# Altium schematic symbol library WCAP-ASLI.SchLib: 143 symbols (part 2 of 3)
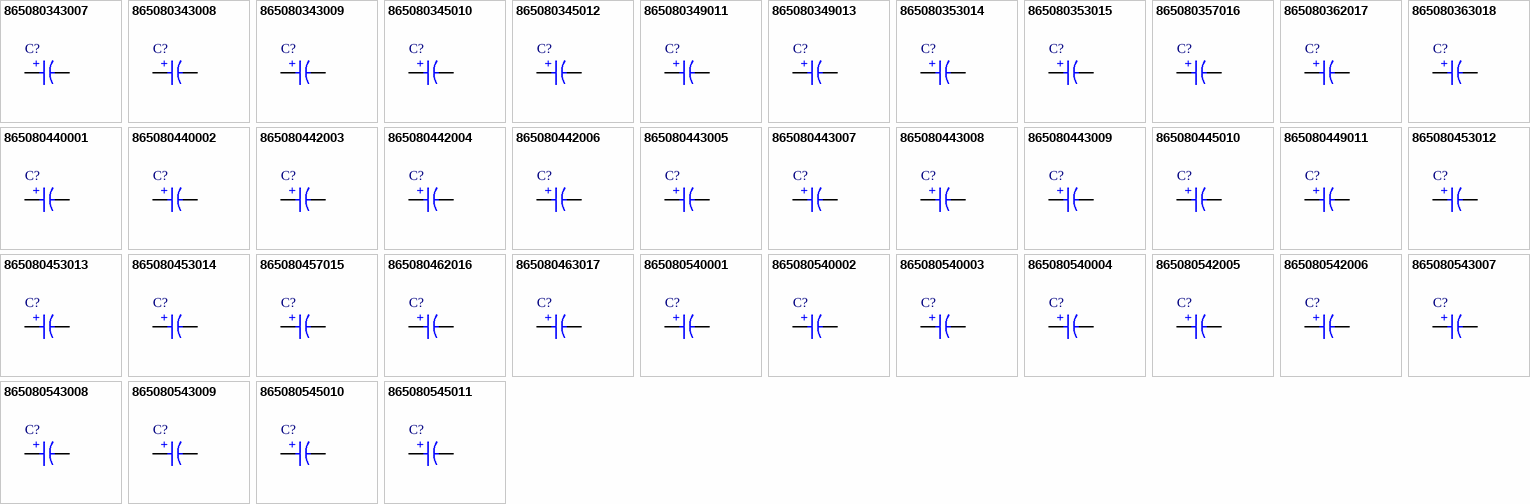
[diagram p4: symbols 865080343007 to 865080545011]

## 865080442004
designator C?, comment 22μF  (value not drawn)
WCAP-ASLI Aluminum Electrolytic Capacitor, V-Chip, SMT, 5mm x 5.5mm, 22μF, 25V; Manufacturer Part Number: 865080442004; Manufacturer: Wurth Elektronik; Dissipation Factor: 14%; Endurance: 2000h; Impedance: 1200mΩ; Leakage Current: 5.5μA; Ripple Current: 145mA; Category: Aluminum Electrolytic Capacitors; Match Code: WCAP-ASLI; ComponentLink1Description: Website Link; ComponentLink1URL: https://www.we-online.com/redexpert/article/865080442004?ad; ComponentLink2Description: Datasheet Link; ComponentLink2URL: https://www.we-online.com/redexpert/spec/865080442004?ad; Mount: Surface Mount; Min Operating Temperature: -55°C; Max Operating Temperature: 105°C; Packaging: Tape and Reel; Height: 5.5mm; Diameter: 5mm; Capacitance: 22μF; Rated Voltage (DC): 25V
footprint WCAP-ASLI_D5H5.5
simulation model 865080442004_22uF
pins: 1 P, 2 N
text: +

## 865080442006
designator C?, comment 33μF  (value not drawn)
WCAP-ASLI Aluminum Electrolytic Capacitor, V-Chip, SMT, 5mm x 5.5mm, 33μF, 25V; Manufacturer Part Number: 865080442006; Manufacturer: Wurth Elektronik; Dissipation Factor: 14%; Endurance: 2000h; Impedance: 1050mΩ; Leakage Current: 8.25μA; Ripple Current: 160mA; Category: Aluminum Electrolytic Capacitors; Match Code: WCAP-ASLI; ComponentLink1Description: Website Link; ComponentLink1URL: https://www.we-online.com/redexpert/article/865080442006?ad; ComponentLink2Description: Datasheet Link; ComponentLink2URL: https://www.we-online.com/redexpert/spec/865080442006?ad; Mount: Surface Mount; Min Operating Temperature: -55°C; Max Operating Temperature: 105°C; Packaging: Tape and Reel; Height: 5.5mm; Diameter: 5mm; Capacitance: 33μF; Rated Voltage (DC): 25V
footprint WCAP-ASLI_D5H5.5
simulation model 865080442006_33uF
pins: 1 P, 2 N
text: +

## 865080443005
designator C?, comment 27μF  (value not drawn)
WCAP-ASLI Aluminum Electrolytic Capacitor, V-Chip, SMT, 6.3mm x 5.5mm, 27μF, 25V; Manufacturer Part Number: 865080443005; Manufacturer: Wurth Elektronik; Dissipation Factor: 14%; Endurance: 2000h; Impedance: 620mΩ; Leakage Current: 6.75μA; Ripple Current: 200mA; Category: Aluminum Electrolytic Capacitors; Match Code: WCAP-ASLI; ComponentLink1Description: Website Link; ComponentLink1URL: https://www.we-online.com/redexpert/article/865080443005?ad; ComponentLink2Description: Datasheet Link; ComponentLink2URL: https://www.we-online.com/redexpert/spec/865080443005?ad; Mount: Surface Mount; Min Operating Temperature: -55°C; Max Operating Temperature: 105°C; Packaging: Tape and Reel; Height: 5.5mm; Diameter: 6.3mm; Capacitance: 27μF; Rated Voltage (DC): 25V
footprint WCAP-ASLI_D6.3H5.5
simulation model 865080443005_27uF
pins: 1 P, 2 N
text: +

## 865080443007
designator C?, comment 47μF  (value not drawn)
WCAP-ASLI Aluminum Electrolytic Capacitor, V-Chip, SMT, 6.3mm x 5.5mm, 47μF, 25V; Manufacturer Part Number: 865080443007; Manufacturer: Wurth Elektronik; Dissipation Factor: 14%; Endurance: 2000h; Impedance: 560mΩ; Leakage Current: 11.75μA; Ripple Current: 220mA; Category: Aluminum Electrolytic Capacitors; Match Code: WCAP-ASLI; ComponentLink1Description: Website Link; ComponentLink1URL: https://www.we-online.com/redexpert/article/865080443007?ad; ComponentLink2Description: Datasheet Link; ComponentLink2URL: https://www.we-online.com/redexpert/spec/865080443007?ad; Mount: Surface Mount; Min Operating Temperature: -55°C; Max Operating Temperature: 105°C; Packaging: Tape and Reel; Height: 5.5mm; Diameter: 6.3mm; Capacitance: 47μF; Rated Voltage (DC): 25V
footprint WCAP-ASLI_D6.3H5.5
simulation model 865080443007_47uF
pins: 1 P, 2 N
text: +

## 865080443008
designator C?, comment 56μF  (value not drawn)
WCAP-ASLI Aluminum Electrolytic Capacitor, V-Chip, SMT, 6.3mm x 5.5mm, 56μF, 25V; Manufacturer Part Number: 865080443008; Manufacturer: Wurth Elektronik; Dissipation Factor: 14%; Endurance: 2000h; Impedance: 540mΩ; Leakage Current: 14μA; Ripple Current: 230mA; Category: Aluminum Electrolytic Capacitors; Match Code: WCAP-ASLI; ComponentLink1Description: Website Link; ComponentLink1URL: https://www.we-online.com/redexpert/article/865080443008?ad; ComponentLink2Description: Datasheet Link; ComponentLink2URL: https://www.we-online.com/redexpert/spec/865080443008?ad; Mount: Surface Mount; Min Operating Temperature: -55°C; Max Operating Temperature: 105°C; Packaging: Tape and Reel; Height: 5.5mm; Diameter: 6.3mm; Capacitance: 56μF; Rated Voltage (DC): 25V
footprint WCAP-ASLI_D6.3H5.5
simulation model 865080443008_56uF
pins: 1 P, 2 N
text: +

## 865080443009
designator C?, comment 68μF  (value not drawn)
WCAP-ASLI Aluminum Electrolytic Capacitor, V-Chip, SMT, 6.3mm x 5.5mm, 68μF, 25V; Manufacturer Part Number: 865080443009; Manufacturer: Wurth Elektronik; Dissipation Factor: 14%; Endurance: 2000h; Impedance: 480mΩ; Leakage Current: 17μA; Ripple Current: 240mA; Category: Aluminum Electrolytic Capacitors; Match Code: WCAP-ASLI; ComponentLink1Description: Website Link; ComponentLink1URL: https://www.we-online.com/redexpert/article/865080443009?ad; ComponentLink2Description: Datasheet Link; ComponentLink2URL: https://www.we-online.com/redexpert/spec/865080443009?ad; Mount: Surface Mount; Min Operating Temperature: -55°C; Max Operating Temperature: 105°C; Packaging: Tape and Reel; Height: 5.5mm; Diameter: 6.3mm; Capacitance: 68μF; Rated Voltage (DC): 25V
footprint WCAP-ASLI_D6.3H5.5
simulation model 865080443009_68uF
pins: 1 P, 2 N
text: +

## 865080445010
designator C?, comment 100μF  (value not drawn)
WCAP-ASLI Aluminum Electrolytic Capacitor, V-Chip, SMT, 6.3mm x 7.7mm, 100μF, 25V; Manufacturer Part Number: 865080445010; Manufacturer: Wurth Elektronik; Dissipation Factor: 14%; Endurance: 2000h; Impedance: 380mΩ; Leakage Current: 25μA; Ripple Current: 290mA; Category: Aluminum Electrolytic Capacitors; Match Code: WCAP-ASLI; ComponentLink1Description: Website Link; ComponentLink1URL: https://www.we-online.com/redexpert/article/865080445010?ad; ComponentLink2Description: Datasheet Link; ComponentLink2URL: https://www.we-online.com/redexpert/spec/865080445010?ad; Mount: Surface Mount; Min Operating Temperature: -55°C; Max Operating Temperature: 105°C; Packaging: Tape and Reel; Height: 7.7mm; Diameter: 6.3mm; Capacitance: 100μF; Rated Voltage (DC): 25V
footprint WCAP-ASLI_D6.3H7.7
simulation model 865080445010_100uF
pins: 1 P, 2 N
text: +

## 865080449011
designator C?, comment 100μF  (value not drawn)
WCAP-ASLI Aluminum Electrolytic Capacitor, V-Chip, SMT, 8mm x 6.5mm, 100μF, 25V; Manufacturer Part Number: 865080449011; Manufacturer: Wurth Elektronik; Dissipation Factor: 14%; Endurance: 2000h; Impedance: 360mΩ; Leakage Current: 25μA; Ripple Current: 300mA; Category: Aluminum Electrolytic Capacitors; Match Code: WCAP-ASLI; ComponentLink1Description: Website Link; ComponentLink1URL: https://www.we-online.com/redexpert/article/865080449011?ad; ComponentLink2Description: Datasheet Link; ComponentLink2URL: https://www.we-online.com/redexpert/spec/865080449011?ad; Mount: Surface Mount; Min Operating Temperature: -55°C; Max Operating Temperature: 105°C; Packaging: Tape and Reel; Height: 6.5mm; Diameter: 8mm; Capacitance: 100μF; Rated Voltage (DC): 25V
footprint WCAP-ASLI_D8H6.5
simulation model 865080449011_100uF
pins: 1 P, 2 N
text: +

## 865080453012
designator C?, comment 150μF  (value not drawn)
WCAP-ASLI Aluminum Electrolytic Capacitor, V-Chip, SMT, 8mm x 10.5mm, 150μF, 25V; Manufacturer Part Number: 865080453012; Manufacturer: Wurth Elektronik; Dissipation Factor: 14%; Endurance: 2000h; Impedance: 250mΩ; Leakage Current: 37.5μA; Ripple Current: 480mA; Category: Aluminum Electrolytic Capacitors; Match Code: WCAP-ASLI; ComponentLink1Description: Website Link; ComponentLink1URL: https://www.we-online.com/redexpert/article/865080453012?ad; ComponentLink2Description: Datasheet Link; ComponentLink2URL: https://www.we-online.com/redexpert/spec/865080453012?ad; Mount: Surface Mount; Min Operating Temperature: -55°C; Max Operating Temperature: 105°C; Packaging: Tape and Reel; Height: 10.5mm; Diameter: 8mm; Capacitance: 150μF; Rated Voltage (DC): 25V
footprint WCAP-ASLI_D8H10.5
simulation model 865080453012_150uF
pins: 1 P, 2 N
text: +

## 865080453013
designator C?, comment 220μF  (value not drawn)
WCAP-ASLI Aluminum Electrolytic Capacitor, V-Chip, SMT, 8mm x 10.5mm, 220μF, 25V; Manufacturer Part Number: 865080453013; Manufacturer: Wurth Elektronik; Dissipation Factor: 14%; Endurance: 2000h; Impedance: 220mΩ; Leakage Current: 55μA; Ripple Current: 530mA; Category: Aluminum Electrolytic Capacitors; Match Code: WCAP-ASLI; ComponentLink1Description: Website Link; ComponentLink1URL: https://www.we-online.com/redexpert/article/865080453013?ad; ComponentLink2Description: Datasheet Link; ComponentLink2URL: https://www.we-online.com/redexpert/spec/865080453013?ad; Mount: Surface Mount; Min Operating Temperature: -55°C; Max Operating Temperature: 105°C; Packaging: Tape and Reel; Height: 10.5mm; Diameter: 8mm; Capacitance: 220μF; Rated Voltage (DC): 25V
footprint WCAP-ASLI_D8H10.5
simulation model 865080453013_220uF
pins: 1 P, 2 N
text: +

## 865080453014
designator C?, comment 330μF  (value not drawn)
WCAP-ASLI Aluminum Electrolytic Capacitor, V-Chip, SMT, 8mm x 10.5mm, 330μF, 25V; Manufacturer Part Number: 865080453014; Manufacturer: Wurth Elektronik; Dissipation Factor: 14%; Endurance: 2000h; Impedance: 200mΩ; Leakage Current: 82.5μA; Ripple Current: 570mA; Category: Aluminum Electrolytic Capacitors; Match Code: WCAP-ASLI; ComponentLink1Description: Website Link; ComponentLink1URL: https://www.we-online.com/redexpert/article/865080453014?ad; ComponentLink2Description: Datasheet Link; ComponentLink2URL: https://www.we-online.com/redexpert/spec/865080453014?ad; Mount: Surface Mount; Min Operating Temperature: -55°C; Max Operating Temperature: 105°C; Packaging: Tape and Reel; Height: 10.5mm; Diameter: 8mm; Capacitance: 330μF; Rated Voltage (DC): 25V
footprint WCAP-ASLI_D8H10.5
simulation model 865080453014_330uF
pins: 1 P, 2 N
text: +

## 865080457015
designator C?, comment 470μF  (value not drawn)
WCAP-ASLI Aluminum Electrolytic Capacitor, V-Chip, SMT, 10mm x 10.5mm, 470μF, 25V; Manufacturer Part Number: 865080457015; Manufacturer: Wurth Elektronik; Dissipation Factor: 14%; Endurance: 2000h; Impedance: 150mΩ; Leakage Current: 117.5μA; Ripple Current: 650mA; Category: Aluminum Electrolytic Capacitors; Match Code: WCAP-ASLI; ComponentLink1Description: Website Link; ComponentLink1URL: https://www.we-online.com/redexpert/article/865080457015?ad; ComponentLink2Description: Datasheet Link; ComponentLink2URL: https://www.we-online.com/redexpert/spec/865080457015?ad; Mount: Surface Mount; Min Operating Temperature: -55°C; Max Operating Temperature: 105°C; Packaging: Tape and Reel; Height: 10.5mm; Diameter: 10mm; Capacitance: 470μF; Rated Voltage (DC): 25V
footprint WCAP-ASLI_D10H10.5
simulation model 865080457015_470uF
pins: 1 P, 2 N
text: +

## 865080462016
designator C?, comment 1000μF  (value not drawn)
WCAP-ASLI Aluminum Electrolytic Capacitor, V-Chip, SMT, 12.5mm x 14mm, 1000μF, 25V; Manufacturer Part Number: 865080462016; Manufacturer: Wurth Elektronik; Dissipation Factor: 14%; Endurance: 5000h; Impedance: 80mΩ; Leakage Current: 250μA; Ripple Current: 1100mA; Category: Aluminum Electrolytic Capacitors; Match Code: WCAP-ASLI; ComponentLink1Description: Website Link; ComponentLink1URL: https://www.we-online.com/redexpert/article/865080462016?ad; ComponentLink2Description: Datasheet Link; ComponentLink2URL: https://www.we-online.com/redexpert/spec/865080462016?ad; Mount: Surface Mount; Min Operating Temperature: -55°C; Max Operating Temperature: 105°C; Packaging: Tape and Reel; Height: 14mm; Diameter: 12.5mm; Capacitance: 1000μF; Rated Voltage (DC): 25V
footprint WCAP-ASLI_D12.5H14
simulation model 865080462016_1mF
pins: 1 P, 2 N
text: +

## 865080463017
designator C?, comment 2200μF  (value not drawn)
WCAP-ASLI Aluminum Electrolytic Capacitor, V-Chip, SMT, 16mm x 17mm, 2200μF, 25V; Manufacturer Part Number: 865080463017; Manufacturer: Wurth Elektronik; Dissipation Factor: 16%; Endurance: 5000h; Impedance: 52mΩ; Leakage Current: 550μA; Ripple Current: 1250mA; Category: Aluminum Electrolytic Capacitors; Match Code: WCAP-ASLI; ComponentLink1Description: Website Link; ComponentLink1URL: https://www.we-online.com/redexpert/article/865080463017?ad; ComponentLink2Description: Datasheet Link; ComponentLink2URL: https://www.we-online.com/redexpert/spec/865080463017?ad; Mount: Surface Mount; Min Operating Temperature: -55°C; Max Operating Temperature: 105°C; Packaging: Tape and Reel; Height: 17mm; Diameter: 16mm; Capacitance: 2200μF; Rated Voltage (DC): 25V
footprint WCAP-ASLI_D16H17
simulation model 865080463017_2.2mF
pins: 1 P, 2 N
text: +

## 865080540001
designator C?, comment 3.3μF  (value not drawn)
WCAP-ASLI Aluminum Electrolytic Capacitor, V-Chip, SMT, 4mm x 5.5mm, 3.3μF, 35V; Manufacturer Part Number: 865080540001; Manufacturer: Wurth Elektronik; Dissipation Factor: 14%; Endurance: 2000h; Impedance: 2800mΩ; Leakage Current: 3μA; Ripple Current: 80mA; Category: Aluminum Electrolytic Capacitors; Match Code: WCAP-ASLI; ComponentLink1Description: Website Link; ComponentLink1URL: https://www.we-online.com/redexpert/article/865080540001?ad; ComponentLink2Description: Datasheet Link; ComponentLink2URL: https://www.we-online.com/redexpert/spec/865080540001?ad; Mount: Surface Mount; Min Operating Temperature: -55°C; Max Operating Temperature: 105°C; Packaging: Tape and Reel; Height: 5.5mm; Diameter: 4mm; Capacitance: 3.3μF; Rated Voltage (DC): 35V
footprint WCAP-ASLI_D4H5.5
simulation model 865080540001_3.3uF
pins: 1 P, 2 N
text: +

## 865080540002
designator C?, comment 4.7μF  (value not drawn)
WCAP-ASLI Aluminum Electrolytic Capacitor, V-Chip, SMT, 4mm x 5.5mm, 4.7μF, 35V; Manufacturer Part Number: 865080540002; Manufacturer: Wurth Elektronik; Dissipation Factor: 14%; Endurance: 2000h; Impedance: 2500mΩ; Leakage Current: 3μA; Ripple Current: 85mA; Category: Aluminum Electrolytic Capacitors; Match Code: WCAP-ASLI; ComponentLink1Description: Website Link; ComponentLink1URL: https://www.we-online.com/redexpert/article/865080540002?ad; ComponentLink2Description: Datasheet Link; ComponentLink2URL: https://www.we-online.com/redexpert/spec/865080540002?ad; Mount: Surface Mount; Min Operating Temperature: -55°C; Max Operating Temperature: 105°C; Packaging: Tape and Reel; Height: 5.5mm; Diameter: 4mm; Capacitance: 4.7μF; Rated Voltage (DC): 35V
footprint WCAP-ASLI_D4H5.5
simulation model 865080540002_4.7uF
pins: 1 P, 2 N
text: +

## 865080540003
designator C?, comment 6.8μF  (value not drawn)
WCAP-ASLI Aluminum Electrolytic Capacitor, V-Chip, SMT, 4mm x 5.5mm, 6.8μF, 35V; Manufacturer Part Number: 865080540003; Manufacturer: Wurth Elektronik; Dissipation Factor: 14%; Endurance: 2000h; Impedance: 2200mΩ; Leakage Current: 3μA; Ripple Current: 88mA; Category: Aluminum Electrolytic Capacitors; Match Code: WCAP-ASLI; ComponentLink1Description: Website Link; ComponentLink1URL: https://www.we-online.com/redexpert/article/865080540003?ad; ComponentLink2Description: Datasheet Link; ComponentLink2URL: https://www.we-online.com/redexpert/spec/865080540003?ad; Mount: Surface Mount; Min Operating Temperature: -55°C; Max Operating Temperature: 105°C; Packaging: Tape and Reel; Height: 5.5mm; Diameter: 4mm; Capacitance: 6.8μF; Rated Voltage (DC): 35V
footprint WCAP-ASLI_D4H5.5
simulation model 865080540003_6.8uF
pins: 1 P, 2 N
text: +

## 865080540004
designator C?, comment 10μF  (value not drawn)
WCAP-ASLI Aluminum Electrolytic Capacitor, V-Chip, SMT, 4mm x 5.5mm, 10μF, 35V; Manufacturer Part Number: 865080540004; Manufacturer: Wurth Elektronik; Dissipation Factor: 14%; Endurance: 2000h; Impedance: 2000mΩ; Leakage Current: 3.5μA; Ripple Current: 90mA; Category: Aluminum Electrolytic Capacitors; Match Code: WCAP-ASLI; ComponentLink1Description: Website Link; ComponentLink1URL: https://www.we-online.com/redexpert/article/865080540004?ad; ComponentLink2Description: Datasheet Link; ComponentLink2URL: https://www.we-online.com/redexpert/spec/865080540004?ad; Mount: Surface Mount; Min Operating Temperature: -55°C; Max Operating Temperature: 105°C; Packaging: Tape and Reel; Height: 5.5mm; Diameter: 4mm; Capacitance: 10μF; Rated Voltage (DC): 35V
footprint WCAP-ASLI_D4H5.5
simulation model 865080540004_10uF
pins: 1 P, 2 N
text: +

## 865080542005
designator C?, comment 15μF  (value not drawn)
WCAP-ASLI Aluminum Electrolytic Capacitor, V-Chip, SMT, 5mm x 5.5mm, 15μF, 35V; Manufacturer Part Number: 865080542005; Manufacturer: Wurth Elektronik; Dissipation Factor: 14%; Endurance: 2000h; Impedance: 1200mΩ; Leakage Current: 5.25μA; Ripple Current: 140mA; Category: Aluminum Electrolytic Capacitors; Match Code: WCAP-ASLI; ComponentLink1Description: Website Link; ComponentLink1URL: https://www.we-online.com/redexpert/article/865080542005?ad; ComponentLink2Description: Datasheet Link; ComponentLink2URL: https://www.we-online.com/redexpert/spec/865080542005?ad; Mount: Surface Mount; Min Operating Temperature: -55°C; Max Operating Temperature: 105°C; Packaging: Tape and Reel; Height: 5.5mm; Diameter: 5mm; Capacitance: 15μF; Rated Voltage (DC): 35V
footprint WCAP-ASLI_D5H5.5
simulation model 865080542005_15uF
pins: 1 P, 2 N
text: +

## 865080542006
designator C?, comment 22μF  (value not drawn)
WCAP-ASLI Aluminum Electrolytic Capacitor, V-Chip, SMT, 5mm x 5.5mm, 22μF, 35V; Manufacturer Part Number: 865080542006; Manufacturer: Wurth Elektronik; Dissipation Factor: 14%; Endurance: 2000h; Impedance: 1100mΩ; Leakage Current: 7.7μA; Ripple Current: 155mA; Category: Aluminum Electrolytic Capacitors; Match Code: WCAP-ASLI; ComponentLink1Description: Website Link; ComponentLink1URL: https://www.we-online.com/redexpert/article/865080542006?ad; ComponentLink2Description: Datasheet Link; ComponentLink2URL: https://www.we-online.com/redexpert/spec/865080542006?ad; Mount: Surface Mount; Min Operating Temperature: -55°C; Max Operating Temperature: 105°C; Packaging: Tape and Reel; Height: 5.5mm; Diameter: 5mm; Capacitance: 22μF; Rated Voltage (DC): 35V
footprint WCAP-ASLI_D5H5.5
simulation model 865080542006_22uF
pins: 1 P, 2 N
text: +

## 865080543007
designator C?, comment 27μF  (value not drawn)
WCAP-ASLI Aluminum Electrolytic Capacitor, V-Chip, SMT, 6.3mm x 5.5mm, 27μF, 35V; Manufacturer Part Number: 865080543007; Manufacturer: Wurth Elektronik; Dissipation Factor: 14%; Endurance: 2000h; Impedance: 600mΩ; Leakage Current: 9.45μA; Ripple Current: 210mA; Category: Aluminum Electrolytic Capacitors; Match Code: WCAP-ASLI; ComponentLink1Description: Website Link; ComponentLink1URL: https://www.we-online.com/redexpert/article/865080543007?ad; ComponentLink2Description: Datasheet Link; ComponentLink2URL: https://www.we-online.com/redexpert/spec/865080543007?ad; Mount: Surface Mount; Min Operating Temperature: -55°C; Max Operating Temperature: 105°C; Packaging: Tape and Reel; Height: 5.5mm; Diameter: 6.3mm; Capacitance: 27μF; Rated Voltage (DC): 35V
footprint WCAP-ASLI_D6.3H5.5
simulation model 865080543007_27uF
pins: 1 P, 2 N
text: +

## 865080543008
designator C?, comment 33μF  (value not drawn)
WCAP-ASLI Aluminum Electrolytic Capacitor, V-Chip, SMT, 6.3mm x 5.5mm, 33μF, 35V; Manufacturer Part Number: 865080543008; Manufacturer: Wurth Elektronik; Dissipation Factor: 14%; Endurance: 2000h; Impedance: 540mΩ; Leakage Current: 11.55μA; Ripple Current: 230mA; Category: Aluminum Electrolytic Capacitors; Match Code: WCAP-ASLI; ComponentLink1Description: Website Link; ComponentLink1URL: https://www.we-online.com/redexpert/article/865080543008?ad; ComponentLink2Description: Datasheet Link; ComponentLink2URL: https://www.we-online.com/redexpert/spec/865080543008?ad; Mount: Surface Mount; Min Operating Temperature: -55°C; Max Operating Temperature: 105°C; Packaging: Tape and Reel; Height: 5.5mm; Diameter: 6.3mm; Capacitance: 33μF; Rated Voltage (DC): 35V
footprint WCAP-ASLI_D6.3H5.5
simulation model 865080543008_33uF
pins: 1 P, 2 N
text: +

## 865080543009
designator C?, comment 47μF  (value not drawn)
WCAP-ASLI Aluminum Electrolytic Capacitor, V-Chip, SMT, 6.3mm x 5.5mm, 47μF, 35V; Manufacturer Part Number: 865080543009; Manufacturer: Wurth Elektronik; Dissipation Factor: 14%; Endurance: 2000h; Impedance: 530mΩ; Leakage Current: 16.45μA; Ripple Current: 240mA; Category: Aluminum Electrolytic Capacitors; Match Code: WCAP-ASLI; ComponentLink1Description: Website Link; ComponentLink1URL: https://www.we-online.com/redexpert/article/865080543009?ad; ComponentLink2Description: Datasheet Link; ComponentLink2URL: https://www.we-online.com/redexpert/spec/865080543009?ad; Mount: Surface Mount; Min Operating Temperature: -55°C; Max Operating Temperature: 105°C; Packaging: Tape and Reel; Height: 5.5mm; Diameter: 6.3mm; Capacitance: 47μF; Rated Voltage (DC): 35V
footprint WCAP-ASLI_D6.3H5.5
simulation model 865080543009_47uF
pins: 1 P, 2 N
text: +

## 865080545010
designator C?, comment 56μF  (value not drawn)
WCAP-ASLI Aluminum Electrolytic Capacitor, V-Chip, SMT, 6.3mm x 7.7mm, 56μF, 35V; Manufacturer Part Number: 865080545010; Manufacturer: Wurth Elektronik; Dissipation Factor: 14%; Endurance: 2000h; Impedance: 490mΩ; Leakage Current: 19.6μA; Ripple Current: 250mA; Category: Aluminum Electrolytic Capacitors; Match Code: WCAP-ASLI; ComponentLink1Description: Website Link; ComponentLink1URL: https://www.we-online.com/redexpert/article/865080545010?ad; ComponentLink2Description: Datasheet Link; ComponentLink2URL: https://www.we-online.com/redexpert/spec/865080545010?ad; Mount: Surface Mount; Min Operating Temperature: -55°C; Max Operating Temperature: 105°C; Packaging: Tape and Reel; Height: 7.7mm; Diameter: 6.3mm; Capacitance: 56μF; Rated Voltage (DC): 35V
footprint WCAP-ASLI_D6.3H7.7
simulation model 865080545010_56uF
pins: 1 P, 2 N
text: +

## 865080545011
designator C?, comment 68μF  (value not drawn)
WCAP-ASLI Aluminum Electrolytic Capacitor, V-Chip, SMT, 6.3mm x 7.7mm, 68μF, 35V; Manufacturer Part Number: 865080545011; Manufacturer: Wurth Elektronik; Dissipation Factor: 14%; Endurance: 2000h; Impedance: 400mΩ; Leakage Current: 23.8μA; Ripple Current: 265mA; Category: Aluminum Electrolytic Capacitors; Match Code: WCAP-ASLI; ComponentLink1Description: Website Link; ComponentLink1URL: https://www.we-online.com/redexpert/article/865080545011?ad; ComponentLink2Description: Datasheet Link; ComponentLink2URL: https://www.we-online.com/redexpert/spec/865080545011?ad; Mount: Surface Mount; Min Operating Temperature: -55°C; Max Operating Temperature: 105°C; Packaging: Tape and Reel; Height: 7.7mm; Diameter: 6.3mm; Capacitance: 68μF; Rated Voltage (DC): 35V
footprint WCAP-ASLI_D6.3H7.7
simulation model 865080545011_68uF
pins: 1 P, 2 N
text: +

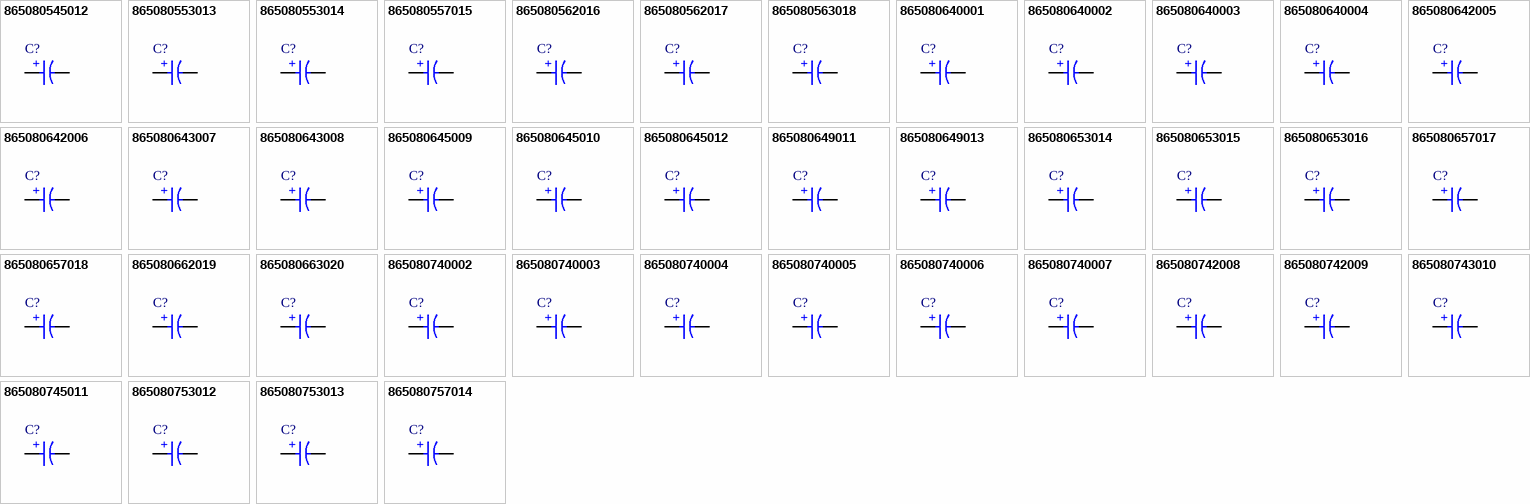
[diagram p2: symbols 865080545012 to 865080757014]

## 865080545012
designator C?, comment 100μF  (value not drawn)
WCAP-ASLI Aluminum Electrolytic Capacitor, V-Chip, SMT, 6.3mm x 7.7mm, 100μF, 35V; Manufacturer Part Number: 865080545012; Manufacturer: Wurth Elektronik; Dissipation Factor: 14%; Endurance: 2000h; Impedance: 380mΩ; Leakage Current: 35μA; Ripple Current: 300mA; Category: Aluminum Electrolytic Capacitors; Match Code: WCAP-ASLI; ComponentLink1Description: Website Link; ComponentLink1URL: https://www.we-online.com/redexpert/article/865080545012?ad; ComponentLink2Description: Datasheet Link; ComponentLink2URL: https://www.we-online.com/redexpert/spec/865080545012?ad; Mount: Surface Mount; Min Operating Temperature: -55°C; Max Operating Temperature: 105°C; Packaging: Tape and Reel; Height: 7.7mm; Diameter: 6.3mm; Capacitance: 100μF; Rated Voltage (DC): 35V
footprint WCAP-ASLI_D6.3H7.7
simulation model 865080545012_100uF
pins: 1 P, 2 N
text: +

## 865080553013
designator C?, comment 150μF  (value not drawn)
WCAP-ASLI Aluminum Electrolytic Capacitor, V-Chip, SMT, 8mm x 10.5mm, 150μF, 35V; Manufacturer Part Number: 865080553013; Manufacturer: Wurth Elektronik; Dissipation Factor: 14%; Endurance: 2000h; Impedance: 240mΩ; Leakage Current: 52.5μA; Ripple Current: 510mA; Category: Aluminum Electrolytic Capacitors; Match Code: WCAP-ASLI; ComponentLink1Description: Website Link; ComponentLink1URL: https://www.we-online.com/redexpert/article/865080553013?ad; ComponentLink2Description: Datasheet Link; ComponentLink2URL: https://www.we-online.com/redexpert/spec/865080553013?ad; Mount: Surface Mount; Min Operating Temperature: -55°C; Max Operating Temperature: 105°C; Packaging: Tape and Reel; Height: 10.5mm; Diameter: 8mm; Capacitance: 150μF; Rated Voltage (DC): 35V
footprint WCAP-ASLI_D8H10.5
simulation model 865080553013_150uF
pins: 1 P, 2 N
text: +

## 865080553014
designator C?, comment 220μF  (value not drawn)
WCAP-ASLI Aluminum Electrolytic Capacitor, V-Chip, SMT, 8mm x 10.5mm, 220μF, 35V; Manufacturer Part Number: 865080553014; Manufacturer: Wurth Elektronik; Dissipation Factor: 14%; Endurance: 2000h; Impedance: 210mΩ; Leakage Current: 77μA; Ripple Current: 570mA; Category: Aluminum Electrolytic Capacitors; Match Code: WCAP-ASLI; ComponentLink1Description: Website Link; ComponentLink1URL: https://www.we-online.com/redexpert/article/865080553014?ad; ComponentLink2Description: Datasheet Link; ComponentLink2URL: https://www.we-online.com/redexpert/spec/865080553014?ad; Mount: Surface Mount; Min Operating Temperature: -55°C; Max Operating Temperature: 105°C; Packaging: Tape and Reel; Height: 10.5mm; Diameter: 8mm; Capacitance: 220μF; Rated Voltage (DC): 35V
footprint WCAP-ASLI_D8H10.5
simulation model 865080553014_220uF
pins: 1 P, 2 N
text: +

## 865080557015
designator C?, comment 330μF  (value not drawn)
WCAP-ASLI Aluminum Electrolytic Capacitor, V-Chip, SMT, 10mm x 10.5mm, 330μF, 35V; Manufacturer Part Number: 865080557015; Manufacturer: Wurth Elektronik; Dissipation Factor: 14%; Endurance: 2000h; Impedance: 150mΩ; Leakage Current: 115.5μA; Ripple Current: 650mA; Category: Aluminum Electrolytic Capacitors; Match Code: WCAP-ASLI; ComponentLink1Description: Website Link; ComponentLink1URL: https://www.we-online.com/redexpert/article/865080557015?ad; ComponentLink2Description: Datasheet Link; ComponentLink2URL: https://www.we-online.com/redexpert/spec/865080557015?ad; Mount: Surface Mount; Min Operating Temperature: -55°C; Max Operating Temperature: 105°C; Packaging: Tape and Reel; Height: 10.5mm; Diameter: 10mm; Capacitance: 330μF; Rated Voltage (DC): 35V
footprint WCAP-ASLI_D10H10.5
simulation model 865080557015_330uF
pins: 1 P, 2 N
text: +

## 865080562016
designator C?, comment 470μF  (value not drawn)
WCAP-ASLI Aluminum Electrolytic Capacitor, V-Chip, SMT, 12.5mm x 14mm, 470μF, 35V; Manufacturer Part Number: 865080562016; Manufacturer: Wurth Elektronik; Dissipation Factor: 14%; Endurance: 5000h; Impedance: 80mΩ; Leakage Current: 164.5μA; Ripple Current: 1100mA; Category: Aluminum Electrolytic Capacitors; Match Code: WCAP-ASLI; ComponentLink1Description: Website Link; ComponentLink1URL: https://www.we-online.com/redexpert/article/865080562016?ad; ComponentLink2Description: Datasheet Link; ComponentLink2URL: https://www.we-online.com/redexpert/spec/865080562016?ad; Mount: Surface Mount; Min Operating Temperature: -55°C; Max Operating Temperature: 105°C; Packaging: Tape and Reel; Height: 14mm; Diameter: 12.5mm; Capacitance: 470μF; Rated Voltage (DC): 35V
footprint WCAP-ASLI_D12.5H14
simulation model 865080562016_470uF
pins: 1 P, 2 N
text: +

## 865080562017
designator C?, comment 680μF  (value not drawn)
WCAP-ASLI Aluminum Electrolytic Capacitor, V-Chip, SMT, 12.5mm x 14mm, 680μF, 35V; Manufacturer Part Number: 865080562017; Manufacturer: Wurth Elektronik; Dissipation Factor: 14%; Endurance: 5000h; Impedance: 80mΩ; Leakage Current: 238μA; Ripple Current: 1100mA; Category: Aluminum Electrolytic Capacitors; Match Code: WCAP-ASLI; ComponentLink1Description: Website Link; ComponentLink1URL: https://www.we-online.com/redexpert/article/865080562017?ad; ComponentLink2Description: Datasheet Link; ComponentLink2URL: https://www.we-online.com/redexpert/spec/865080562017?ad; Mount: Surface Mount; Min Operating Temperature: -55°C; Max Operating Temperature: 105°C; Packaging: Tape and Reel; Height: 14mm; Diameter: 12.5mm; Capacitance: 680μF; Rated Voltage (DC): 35V
footprint WCAP-ASLI_D12.5H14
simulation model 865080562017_680uF
pins: 1 P, 2 N
text: +

## 865080563018
designator C?, comment 1500μF  (value not drawn)
WCAP-ASLI Aluminum Electrolytic Capacitor, V-Chip, SMT, 16mm x 17mm, 1500μF, 35V; Manufacturer Part Number: 865080563018; Manufacturer: Wurth Elektronik; Dissipation Factor: 14%; Endurance: 5000h; Impedance: 52mΩ; Leakage Current: 525μA; Ripple Current: 1250mA; Category: Aluminum Electrolytic Capacitors; Match Code: WCAP-ASLI; ComponentLink1Description: Website Link; ComponentLink1URL: https://www.we-online.com/redexpert/article/865080563018?ad; ComponentLink2Description: Datasheet Link; ComponentLink2URL: https://www.we-online.com/redexpert/spec/865080563018?ad; Mount: Surface Mount; Min Operating Temperature: -55°C; Max Operating Temperature: 105°C; Packaging: Tape and Reel; Height: 17mm; Diameter: 16mm; Capacitance: 1500μF; Rated Voltage (DC): 35V
footprint WCAP-ASLI_D16H17
simulation model 865080563018_1.5mF
pins: 1 P, 2 N
text: +

## 865080640001
designator C?, comment 1μF  (value not drawn)
WCAP-ASLI Aluminum Electrolytic Capacitor, V-Chip, SMT, 4mm x 5.5mm, 1μF, 50V; Manufacturer Part Number: 865080640001; Manufacturer: Wurth Elektronik; Dissipation Factor: 12%; Endurance: 2000h; Impedance: 4500mΩ; Leakage Current: 3μA; Ripple Current: 55mA; Category: Aluminum Electrolytic Capacitors; Match Code: WCAP-ASLI; ComponentLink1Description: Website Link; ComponentLink1URL: https://www.we-online.com/redexpert/article/865080640001?ad; ComponentLink2Description: Datasheet Link; ComponentLink2URL: https://www.we-online.com/redexpert/spec/865080640001?ad; Mount: Surface Mount; Min Operating Temperature: -55°C; Max Operating Temperature: 105°C; Packaging: Tape and Reel; Height: 5.5mm; Diameter: 4mm; Capacitance: 1μF; Rated Voltage (DC): 50V
footprint WCAP-ASLI_D4H5.5
simulation model 865080640001_1uF
pins: 1 P, 2 N
text: +

## 865080640002
designator C?, comment 2.2μF  (value not drawn)
WCAP-ASLI Aluminum Electrolytic Capacitor, V-Chip, SMT, 4mm x 5.5mm, 2.2μF, 50V; Manufacturer Part Number: 865080640002; Manufacturer: Wurth Elektronik; Dissipation Factor: 12%; Endurance: 2000h; Impedance: 4500mΩ; Leakage Current: 3μA; Ripple Current: 55mA; Category: Aluminum Electrolytic Capacitors; Match Code: WCAP-ASLI; ComponentLink1Description: Website Link; ComponentLink1URL: https://www.we-online.com/redexpert/article/865080640002?ad; ComponentLink2Description: Datasheet Link; ComponentLink2URL: https://www.we-online.com/redexpert/spec/865080640002?ad; Mount: Surface Mount; Min Operating Temperature: -55°C; Max Operating Temperature: 105°C; Packaging: Tape and Reel; Height: 5.5mm; Diameter: 4mm; Capacitance: 2.2μF; Rated Voltage (DC): 50V
footprint WCAP-ASLI_D4H5.5
simulation model 865080640002_2.2uF
pins: 1 P, 2 N
text: +

## 865080640003
designator C?, comment 3.3μF  (value not drawn)
WCAP-ASLI Aluminum Electrolytic Capacitor, V-Chip, SMT, 4mm x 5.5mm, 3.3μF, 50V; Manufacturer Part Number: 865080640003; Manufacturer: Wurth Elektronik; Dissipation Factor: 12%; Endurance: 2000h; Impedance: 4500mΩ; Leakage Current: 3μA; Ripple Current: 55mA; Category: Aluminum Electrolytic Capacitors; Match Code: WCAP-ASLI; ComponentLink1Description: Website Link; ComponentLink1URL: https://www.we-online.com/redexpert/article/865080640003?ad; ComponentLink2Description: Datasheet Link; ComponentLink2URL: https://www.we-online.com/redexpert/spec/865080640003?ad; Mount: Surface Mount; Min Operating Temperature: -55°C; Max Operating Temperature: 105°C; Packaging: Tape and Reel; Height: 5.5mm; Diameter: 4mm; Capacitance: 3.3μF; Rated Voltage (DC): 50V
footprint WCAP-ASLI_D4H5.5
simulation model 865080640003_3.3uF
pins: 1 P, 2 N
text: +

## 865080640004
designator C?, comment 4.7μF  (value not drawn)
WCAP-ASLI Aluminum Electrolytic Capacitor, V-Chip, SMT, 4mm x 5.5mm, 4.7μF, 50V; Manufacturer Part Number: 865080640004; Manufacturer: Wurth Elektronik; Dissipation Factor: 12%; Endurance: 2000h; Impedance: 4500mΩ; Leakage Current: 3μA; Ripple Current: 55mA; Category: Aluminum Electrolytic Capacitors; Match Code: WCAP-ASLI; ComponentLink1Description: Website Link; ComponentLink1URL: https://www.we-online.com/redexpert/article/865080640004?ad; ComponentLink2Description: Datasheet Link; ComponentLink2URL: https://www.we-online.com/redexpert/spec/865080640004?ad; Mount: Surface Mount; Min Operating Temperature: -55°C; Max Operating Temperature: 105°C; Packaging: Tape and Reel; Height: 5.5mm; Diameter: 4mm; Capacitance: 4.7μF; Rated Voltage (DC): 50V
footprint WCAP-ASLI_D4H5.5
simulation model 865080640004_4.7uF
pins: 1 P, 2 N
text: +

## 865080642005
designator C?, comment 6.8μF  (value not drawn)
WCAP-ASLI Aluminum Electrolytic Capacitor, V-Chip, SMT, 5mm x 5.5mm, 6.8μF, 50V; Manufacturer Part Number: 865080642005; Manufacturer: Wurth Elektronik; Dissipation Factor: 12%; Endurance: 2000h; Impedance: 3800mΩ; Leakage Current: 3.4μA; Ripple Current: 75mA; Category: Aluminum Electrolytic Capacitors; Match Code: WCAP-ASLI; ComponentLink1Description: Website Link; ComponentLink1URL: https://www.we-online.com/redexpert/article/865080642005?ad; ComponentLink2Description: Datasheet Link; ComponentLink2URL: https://www.we-online.com/redexpert/spec/865080642005?ad; Mount: Surface Mount; Min Operating Temperature: -55°C; Max Operating Temperature: 105°C; Packaging: Tape and Reel; Height: 5.5mm; Diameter: 5mm; Capacitance: 6.8μF; Rated Voltage (DC): 50V
footprint WCAP-ASLI_D5H5.5
simulation model 865080642005_6.8uF
pins: 1 P, 2 N
text: +

## 865080642006
designator C?, comment 10μF  (value not drawn)
WCAP-ASLI Aluminum Electrolytic Capacitor, V-Chip, SMT, 5mm x 5.5mm, 10μF, 50V; Manufacturer Part Number: 865080642006; Manufacturer: Wurth Elektronik; Dissipation Factor: 12%; Endurance: 2000h; Impedance: 2800mΩ; Leakage Current: 5μA; Ripple Current: 95mA; Category: Aluminum Electrolytic Capacitors; Match Code: WCAP-ASLI; ComponentLink1Description: Website Link; ComponentLink1URL: https://www.we-online.com/redexpert/article/865080642006?ad; ComponentLink2Description: Datasheet Link; ComponentLink2URL: https://www.we-online.com/redexpert/spec/865080642006?ad; Mount: Surface Mount; Min Operating Temperature: -55°C; Max Operating Temperature: 105°C; Packaging: Tape and Reel; Height: 5.5mm; Diameter: 5mm; Capacitance: 10μF; Rated Voltage (DC): 50V
footprint WCAP-ASLI_D5H5.5
simulation model 865080642006_10uF
pins: 1 P, 2 N
text: +

## 865080643007
designator C?, comment 15μF  (value not drawn)
WCAP-ASLI Aluminum Electrolytic Capacitor, V-Chip, SMT, 6.3mm x 5.5mm, 15μF, 50V; Manufacturer Part Number: 865080643007; Manufacturer: Wurth Elektronik; Dissipation Factor: 12%; Endurance: 2000h; Impedance: 1600mΩ; Leakage Current: 7.5μA; Ripple Current: 140mA; Category: Aluminum Electrolytic Capacitors; Match Code: WCAP-ASLI; ComponentLink1Description: Website Link; ComponentLink1URL: https://www.we-online.com/redexpert/article/865080643007?ad; ComponentLink2Description: Datasheet Link; ComponentLink2URL: https://www.we-online.com/redexpert/spec/865080643007?ad; Mount: Surface Mount; Min Operating Temperature: -55°C; Max Operating Temperature: 105°C; Packaging: Tape and Reel; Height: 5.5mm; Diameter: 6.3mm; Capacitance: 15μF; Rated Voltage (DC): 50V
footprint WCAP-ASLI_D6.3H5.5
simulation model 865080643007_15uF
pins: 1 P, 2 N
text: +

## 865080643008
designator C?, comment 22μF  (value not drawn)
WCAP-ASLI Aluminum Electrolytic Capacitor, V-Chip, SMT, 6.3mm x 5.5mm, 22μF, 50V; Manufacturer Part Number: 865080643008; Manufacturer: Wurth Elektronik; Dissipation Factor: 12%; Endurance: 2000h; Impedance: 1300mΩ; Leakage Current: 11μA; Ripple Current: 150mA; Category: Aluminum Electrolytic Capacitors; Match Code: WCAP-ASLI; ComponentLink1Description: Website Link; ComponentLink1URL: https://www.we-online.com/redexpert/article/865080643008?ad; ComponentLink2Description: Datasheet Link; ComponentLink2URL: https://www.we-online.com/redexpert/spec/865080643008?ad; Mount: Surface Mount; Min Operating Temperature: -55°C; Max Operating Temperature: 105°C; Packaging: Tape and Reel; Height: 5.5mm; Diameter: 6.3mm; Capacitance: 22μF; Rated Voltage (DC): 50V
footprint WCAP-ASLI_D6.3H5.5
simulation model 865080643008_22uF
pins: 1 P, 2 N
text: +

## 865080645009
designator C?, comment 27μF  (value not drawn)
WCAP-ASLI Aluminum Electrolytic Capacitor, V-Chip, SMT, 6.3mm x 7.7mm, 27μF, 50V; Manufacturer Part Number: 865080645009; Manufacturer: Wurth Elektronik; Dissipation Factor: 12%; Endurance: 2000h; Impedance: 1200mΩ; Leakage Current: 13.5μA; Ripple Current: 180mA; Category: Aluminum Electrolytic Capacitors; Match Code: WCAP-ASLI; ComponentLink1Description: Website Link; ComponentLink1URL: https://www.we-online.com/redexpert/article/865080645009?ad; ComponentLink2Description: Datasheet Link; ComponentLink2URL: https://www.we-online.com/redexpert/spec/865080645009?ad; Mount: Surface Mount; Min Operating Temperature: -55°C; Max Operating Temperature: 105°C; Packaging: Tape and Reel; Height: 7.7mm; Diameter: 6.3mm; Capacitance: 27μF; Rated Voltage (DC): 50V
footprint WCAP-ASLI_D6.3H7.7
simulation model 865080645009_27uF
pins: 1 P, 2 N
text: +

## 865080645010
designator C?, comment 33μF  (value not drawn)
WCAP-ASLI Aluminum Electrolytic Capacitor, V-Chip, SMT, 6.3mm x 7.7mm, 33μF, 50V; Manufacturer Part Number: 865080645010; Manufacturer: Wurth Elektronik; Dissipation Factor: 12%; Endurance: 2000h; Impedance: 710mΩ; Leakage Current: 16.5μA; Ripple Current: 190mA; Category: Aluminum Electrolytic Capacitors; Match Code: WCAP-ASLI; ComponentLink1Description: Website Link; ComponentLink1URL: https://www.we-online.com/redexpert/article/865080645010?ad; ComponentLink2Description: Datasheet Link; ComponentLink2URL: https://www.we-online.com/redexpert/spec/865080645010?ad; Mount: Surface Mount; Min Operating Temperature: -55°C; Max Operating Temperature: 105°C; Packaging: Tape and Reel; Height: 7.7mm; Diameter: 6.3mm; Capacitance: 33μF; Rated Voltage (DC): 50V
footprint WCAP-ASLI_D6.3H7.7
simulation model 865080645010_33uF
pins: 1 P, 2 N
text: +

## 865080645012
designator C?, comment 47μF  (value not drawn)
WCAP-ASLI Aluminum Electrolytic Capacitor, V-Chip, SMT, 6.3mm x 7.7mm, 47μF, 50V; Manufacturer Part Number: 865080645012; Manufacturer: Wurth Elektronik; Dissipation Factor: 12%; Endurance: 2000h; Impedance: 700mΩ; Leakage Current: 23.5μA; Ripple Current: 230mA; Category: Aluminum Electrolytic Capacitors; Match Code: WCAP-ASLI; ComponentLink1Description: Website Link; ComponentLink1URL: https://www.we-online.com/redexpert/article/865080645012?ad; ComponentLink2Description: Datasheet Link; ComponentLink2URL: https://www.we-online.com/redexpert/spec/865080645012?ad; Mount: Surface Mount; Min Operating Temperature: -55°C; Max Operating Temperature: 105°C; Packaging: Tape and Reel; Height: 7.7mm; Diameter: 6.3mm; Capacitance: 47μF; Rated Voltage (DC): 50V
footprint WCAP-ASLI_D6.3H7.7
simulation model 865080645012_47uF
pins: 1 P, 2 N
text: +

## 865080649011
designator C?, comment 33μF  (value not drawn)
WCAP-ASLI Aluminum Electrolytic Capacitor, V-Chip, SMT, 8mm x 6.5mm, 33μF, 50V; Manufacturer Part Number: 865080649011; Manufacturer: Wurth Elektronik; Dissipation Factor: 12%; Endurance: 2000h; Impedance: 700mΩ; Leakage Current: 16.5μA; Ripple Current: 200mA; Category: Aluminum Electrolytic Capacitors; Match Code: WCAP-ASLI; ComponentLink1Description: Website Link; ComponentLink1URL: https://www.we-online.com/redexpert/article/865080649011?ad; ComponentLink2Description: Datasheet Link; ComponentLink2URL: https://www.we-online.com/redexpert/spec/865080649011?ad; Mount: Surface Mount; Min Operating Temperature: -55°C; Max Operating Temperature: 105°C; Packaging: Tape and Reel; Height: 6.5mm; Diameter: 8mm; Capacitance: 33μF; Rated Voltage (DC): 50V
footprint WCAP-ASLI_D8H6.5
simulation model 865080649011_33uF
pins: 1 P, 2 N
text: +

## 865080649013
designator C?, comment 47μF  (value not drawn)
WCAP-ASLI Aluminum Electrolytic Capacitor, V-Chip, SMT, 8mm x 6.5mm, 47μF, 50V; Manufacturer Part Number: 865080649013; Manufacturer: Wurth Elektronik; Dissipation Factor: 12%; Endurance: 2000h; Impedance: 690mΩ; Leakage Current: 23.5μA; Ripple Current: 240mA; Category: Aluminum Electrolytic Capacitors; Match Code: WCAP-ASLI; ComponentLink1Description: Website Link; ComponentLink1URL: https://www.we-online.com/redexpert/article/865080649013?ad; ComponentLink2Description: Datasheet Link; ComponentLink2URL: https://www.we-online.com/redexpert/spec/865080649013?ad; Mount: Surface Mount; Min Operating Temperature: -55°C; Max Operating Temperature: 105°C; Packaging: Tape and Reel; Height: 6.5mm; Diameter: 8mm; Capacitance: 47μF; Rated Voltage (DC): 50V
footprint WCAP-ASLI_D8H6.5
simulation model 865080649013_47uF
pins: 1 P, 2 N
text: +

## 865080653014
designator C?, comment 56μF  (value not drawn)
WCAP-ASLI Aluminum Electrolytic Capacitor, V-Chip, SMT, 8mm x 10.5mm, 56μF, 50V; Manufacturer Part Number: 865080653014; Manufacturer: Wurth Elektronik; Dissipation Factor: 12%; Endurance: 2000h; Impedance: 520mΩ; Leakage Current: 28μA; Ripple Current: 300mA; Category: Aluminum Electrolytic Capacitors; Match Code: WCAP-ASLI; ComponentLink1Description: Website Link; ComponentLink1URL: https://www.we-online.com/redexpert/article/865080653014?ad; ComponentLink2Description: Datasheet Link; ComponentLink2URL: https://www.we-online.com/redexpert/spec/865080653014?ad; Mount: Surface Mount; Min Operating Temperature: -55°C; Max Operating Temperature: 105°C; Packaging: Tape and Reel; Height: 10.5mm; Diameter: 8mm; Capacitance: 56μF; Rated Voltage (DC): 50V
footprint WCAP-ASLI_D8H10.5
simulation model 865080653014_56uF
pins: 1 P, 2 N
text: +

## 865080653015
designator C?, comment 68μF  (value not drawn)
WCAP-ASLI Aluminum Electrolytic Capacitor, V-Chip, SMT, 8mm x 10.5mm, 68μF, 50V; Manufacturer Part Number: 865080653015; Manufacturer: Wurth Elektronik; Dissipation Factor: 12%; Endurance: 2000h; Impedance: 500mΩ; Leakage Current: 34μA; Ripple Current: 320mA; Category: Aluminum Electrolytic Capacitors; Match Code: WCAP-ASLI; ComponentLink1Description: Website Link; ComponentLink1URL: https://www.we-online.com/redexpert/article/865080653015?ad; ComponentLink2Description: Datasheet Link; ComponentLink2URL: https://www.we-online.com/redexpert/spec/865080653015?ad; Mount: Surface Mount; Min Operating Temperature: -55°C; Max Operating Temperature: 105°C; Packaging: Tape and Reel; Height: 10.5mm; Diameter: 8mm; Capacitance: 68μF; Rated Voltage (DC): 50V
footprint WCAP-ASLI_D8H10.5
simulation model 865080653015_68uF
pins: 1 P, 2 N
text: +

## 865080653016
designator C?, comment 100μF  (value not drawn)
WCAP-ASLI Aluminum Electrolytic Capacitor, V-Chip, SMT, 8mm x 10.5mm, 100μF, 50V; Manufacturer Part Number: 865080653016; Manufacturer: Wurth Elektronik; Dissipation Factor: 12%; Endurance: 2000h; Impedance: 460mΩ; Leakage Current: 50μA; Ripple Current: 350mA; Category: Aluminum Electrolytic Capacitors; Match Code: WCAP-ASLI; ComponentLink1Description: Website Link; ComponentLink1URL: https://www.we-online.com/redexpert/article/865080653016?ad; ComponentLink2Description: Datasheet Link; ComponentLink2URL: https://www.we-online.com/redexpert/spec/865080653016?ad; Mount: Surface Mount; Min Operating Temperature: -55°C; Max Operating Temperature: 105°C; Packaging: Tape and Reel; Height: 10.5mm; Diameter: 8mm; Capacitance: 100μF; Rated Voltage (DC): 50V
footprint WCAP-ASLI_D8H10.5
simulation model 865080653016_100uF
pins: 1 P, 2 N
text: +

## 865080657017
designator C?, comment 150μF  (value not drawn)
WCAP-ASLI Aluminum Electrolytic Capacitor, V-Chip, SMT, 10mm x 10.5mm, 150μF, 50V; Manufacturer Part Number: 865080657017; Manufacturer: Wurth Elektronik; Dissipation Factor: 12%; Endurance: 2000h; Impedance: 250mΩ; Leakage Current: 75μA; Ripple Current: 600mA; Category: Aluminum Electrolytic Capacitors; Match Code: WCAP-ASLI; ComponentLink1Description: Website Link; ComponentLink1URL: https://www.we-online.com/redexpert/article/865080657017?ad; ComponentLink2Description: Datasheet Link; ComponentLink2URL: https://www.we-online.com/redexpert/spec/865080657017?ad; Mount: Surface Mount; Min Operating Temperature: -55°C; Max Operating Temperature: 105°C; Packaging: Tape and Reel; Height: 10.5mm; Diameter: 10mm; Capacitance: 150μF; Rated Voltage (DC): 50V
footprint WCAP-ASLI_D10H10.5
simulation model 865080657017_150uF
pins: 1 P, 2 N
text: +

## 865080657018
designator C?, comment 220μF  (value not drawn)
WCAP-ASLI Aluminum Electrolytic Capacitor, V-Chip, SMT, 10mm x 10.5mm, 220μF, 50V; Manufacturer Part Number: 865080657018; Manufacturer: Wurth Elektronik; Dissipation Factor: 12%; Endurance: 2000h; Impedance: 230mΩ; Leakage Current: 110μA; Ripple Current: 650mA; Category: Aluminum Electrolytic Capacitors; Match Code: WCAP-ASLI; ComponentLink1Description: Website Link; ComponentLink1URL: https://www.we-online.com/redexpert/article/865080657018?ad; ComponentLink2Description: Datasheet Link; ComponentLink2URL: https://www.we-online.com/redexpert/spec/865080657018?ad; Mount: Surface Mount; Min Operating Temperature: -55°C; Max Operating Temperature: 105°C; Packaging: Tape and Reel; Height: 10.5mm; Diameter: 10mm; Capacitance: 220μF; Rated Voltage (DC): 50V
footprint WCAP-ASLI_D10H10.5
simulation model 865080657018_220uF
pins: 1 P, 2 N
text: +

## 865080662019
designator C?, comment 330μF  (value not drawn)
WCAP-ASLI Aluminum Electrolytic Capacitor, V-Chip, SMT, 12.5mm x 14mm, 330μF, 50V; Manufacturer Part Number: 865080662019; Manufacturer: Wurth Elektronik; Dissipation Factor: 12%; Endurance: 5000h; Impedance: 210mΩ; Leakage Current: 165μA; Ripple Current: 800mA; Category: Aluminum Electrolytic Capacitors; Match Code: WCAP-ASLI; ComponentLink1Description: Website Link; ComponentLink1URL: https://www.we-online.com/redexpert/article/865080662019?ad; ComponentLink2Description: Datasheet Link; ComponentLink2URL: https://www.we-online.com/redexpert/spec/865080662019?ad; Mount: Surface Mount; Min Operating Temperature: -55°C; Max Operating Temperature: 105°C; Packaging: Tape and Reel; Height: 14mm; Diameter: 12.5mm; Capacitance: 330μF; Rated Voltage (DC): 50V
footprint WCAP-ASLI_D12.5H14
simulation model 865080662019_330uF
pins: 1 P, 2 N
text: +

## 865080663020
designator C?, comment 1000μF  (value not drawn)
WCAP-ASLI Aluminum Electrolytic Capacitor, V-Chip, SMT, 16mm x 17mm, 1000μF, 50V; Manufacturer Part Number: 865080663020; Manufacturer: Wurth Elektronik; Dissipation Factor: 12%; Endurance: 5000h; Impedance: 78mΩ; Leakage Current: 500μA; Ripple Current: 1000mA; Category: Aluminum Electrolytic Capacitors; Match Code: WCAP-ASLI; ComponentLink1Description: Website Link; ComponentLink1URL: https://www.we-online.com/redexpert/article/865080663020?ad; ComponentLink2Description: Datasheet Link; ComponentLink2URL: https://www.we-online.com/redexpert/spec/865080663020?ad; Mount: Surface Mount; Min Operating Temperature: -55°C; Max Operating Temperature: 105°C; Packaging: Tape and Reel; Height: 17mm; Diameter: 16mm; Capacitance: 1000μF; Rated Voltage (DC): 50V
footprint WCAP-ASLI_D16H17
simulation model 865080663020_1mF
pins: 1 P, 2 N
text: +

## 865080740002
designator C?, comment 0.1μF  (value not drawn)
WCAP-ASLI Aluminum Electrolytic Capacitor, V-Chip, SMT, 4mm x 5.5mm, 0.1μF, 63V; Manufacturer Part Number: 865080740002; Manufacturer: Wurth Elektronik; Dissipation Factor: 12%; Endurance: 2000h; Leakage Current: 3μA; Ripple Current: 1mA; Category: Aluminum Electrolytic Capacitors; Match Code: WCAP-ASLI; ComponentLink1Description: Website Link; ComponentLink1URL: https://www.we-online.com/redexpert/article/865080740002?ad; ComponentLink2Description: Datasheet Link; ComponentLink2URL: https://www.we-online.com/redexpert/spec/865080740002?ad; Mount: Surface Mount; Min Operating Temperature: -55°C; Max Operating Temperature: 105°C; Packaging: Tape and Reel; Height: 5.5mm; Diameter: 4mm; Capacitance: 0.1μF; Rated Voltage (DC): 63V
footprint WCAP-ASLI_D4H5.5
simulation model 865080740002_100nF
pins: 1 P, 2 N
text: +

## 865080740003
designator C?, comment 0.22μF  (value not drawn)
WCAP-ASLI Aluminum Electrolytic Capacitor, V-Chip, SMT, 4mm x 5.5mm, 0.22μF, 63V; Manufacturer Part Number: 865080740003; Manufacturer: Wurth Elektronik; Dissipation Factor: 12%; Endurance: 2000h; Leakage Current: 3μA; Ripple Current: 2mA; Category: Aluminum Electrolytic Capacitors; Match Code: WCAP-ASLI; ComponentLink1Description: Website Link; ComponentLink1URL: https://www.we-online.com/redexpert/article/865080740003?ad; ComponentLink2Description: Datasheet Link; ComponentLink2URL: https://www.we-online.com/redexpert/spec/865080740003?ad; Mount: Surface Mount; Min Operating Temperature: -55°C; Max Operating Temperature: 105°C; Packaging: Tape and Reel; Height: 5.5mm; Diameter: 4mm; Capacitance: 0.22μF; Rated Voltage (DC): 63V
footprint WCAP-ASLI_D4H5.5
simulation model 865080740003_220nF
pins: 1 P, 2 N
text: +

## 865080740004
designator C?, comment 0.33μF  (value not drawn)
WCAP-ASLI Aluminum Electrolytic Capacitor, V-Chip, SMT, 4mm x 5.5mm, 0.33μF, 63V; Manufacturer Part Number: 865080740004; Manufacturer: Wurth Elektronik; Dissipation Factor: 12%; Endurance: 2000h; Leakage Current: 3μA; Ripple Current: 3mA; Category: Aluminum Electrolytic Capacitors; Match Code: WCAP-ASLI; ComponentLink1Description: Website Link; ComponentLink1URL: https://www.we-online.com/redexpert/article/865080740004?ad; ComponentLink2Description: Datasheet Link; ComponentLink2URL: https://www.we-online.com/redexpert/spec/865080740004?ad; Mount: Surface Mount; Min Operating Temperature: -55°C; Max Operating Temperature: 105°C; Packaging: Tape and Reel; Height: 5.5mm; Diameter: 4mm; Capacitance: 0.33μF; Rated Voltage (DC): 63V
footprint WCAP-ASLI_D4H5.5
simulation model 865080740004_330nF
pins: 1 P, 2 N
text: +